# Altium integrated library Linear Technology Power Management PMIC Multifunction.IntLib: 360 symbols (part 26 of 42)
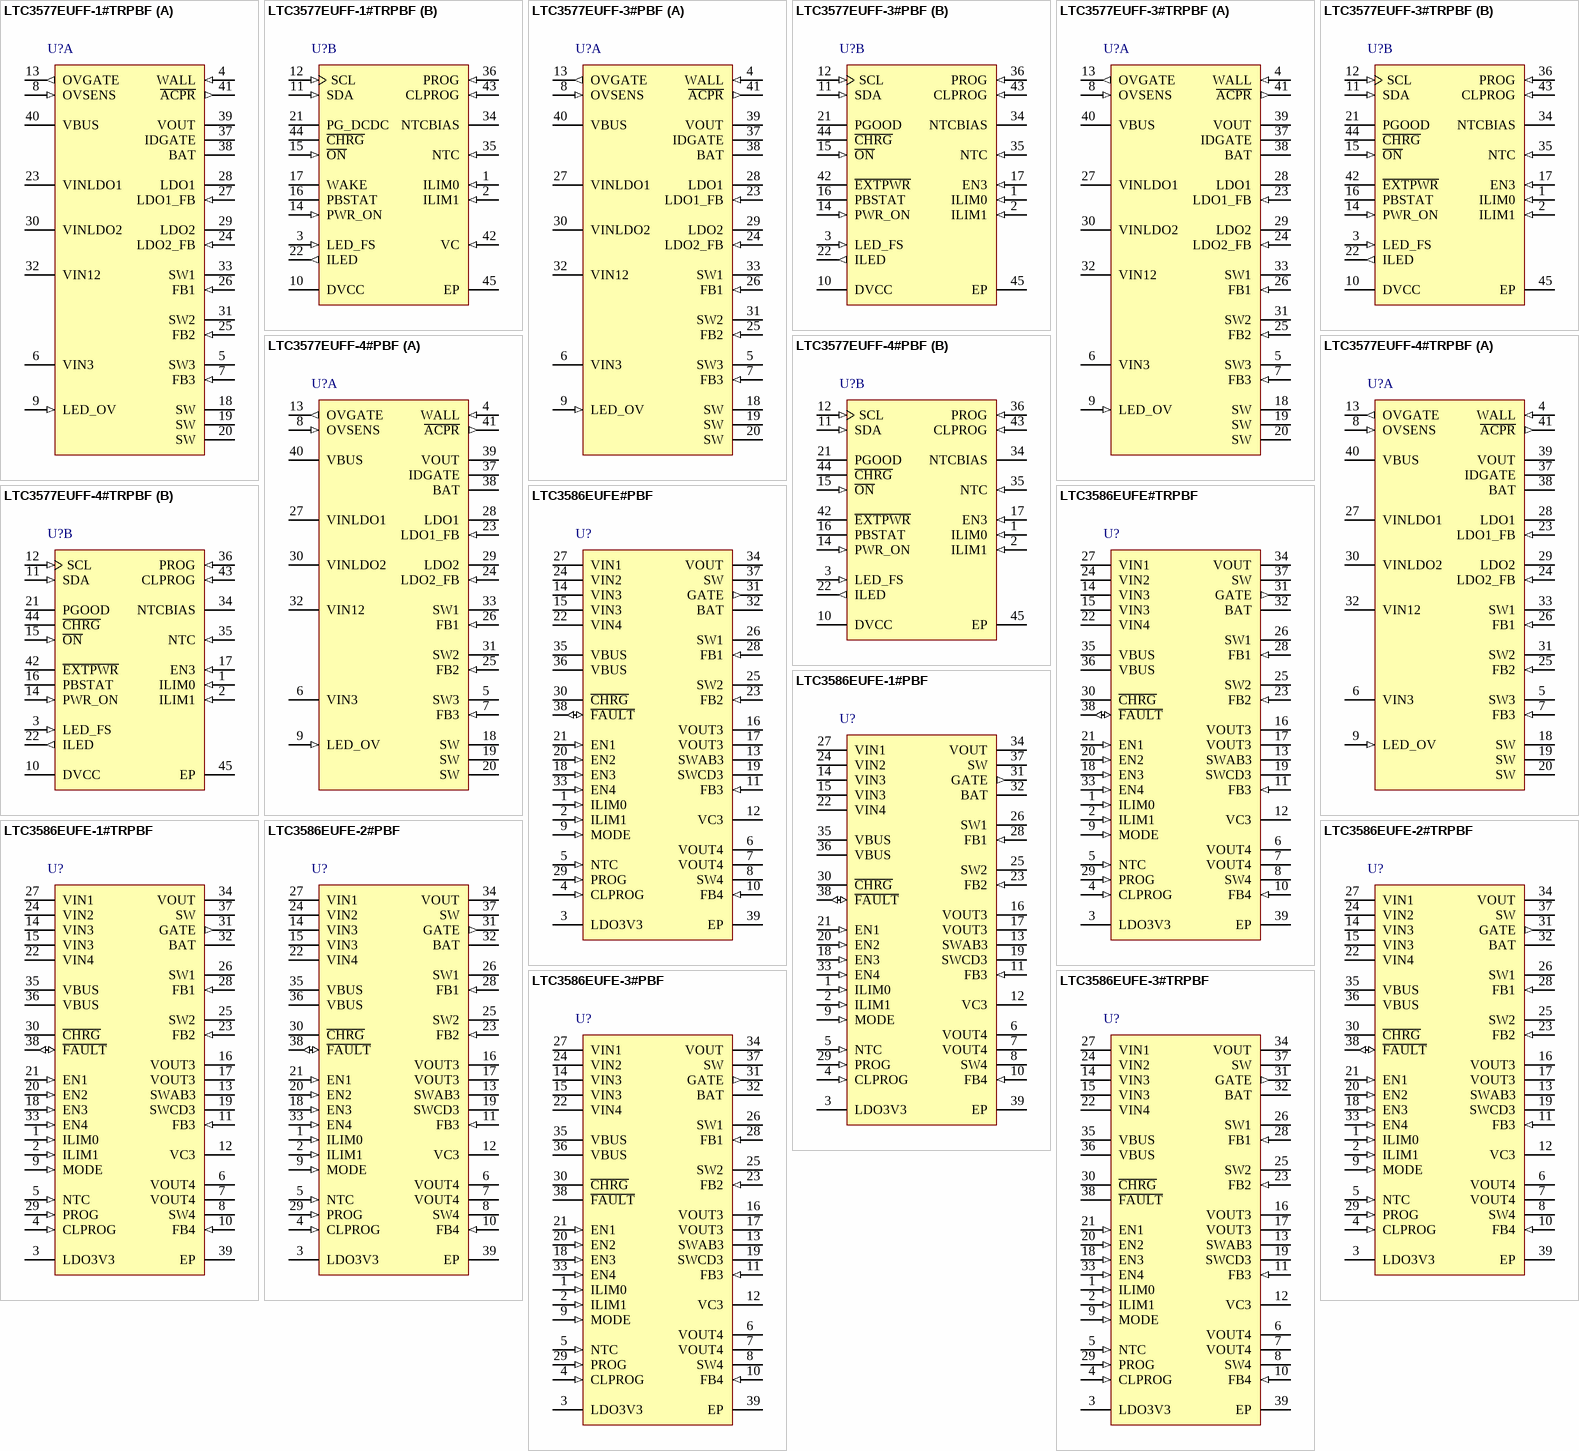
[diagram p43: symbols LTC3577EUFF-1#TRPBF to LTC3586EUFE-3#TRPBF]

## LTC3577EUFF-1#TRPBF
designator U?
Highly Integrated 6-Channel Portable PMIC, 4.35 to 5.5 V Vin, 44-pin QFN (UFF-44-V-UFF44MA), -40 to 85 degC, Pb-Free, Tape and Reel; Manufacturer: Linear Technology; PartNumber: LTC3577EUFF-1#TRPBF; Number of Cells: 1; Number of Outputs: 6; Vin Max(V): 5.5; Vin Min(V): 4.35; DatasheetVersion: Rev. A; PackageVersion: Rev. A, 06/2010; PackageReference: UFF-44; PackageDescription: 44-Pin Plastic QFN, Body 4 x 7 mm, Pitch 0.4 mm; Supplier 1: Digi-Key; Supplier Part Number 1: LTC3577EUFF-1#TRPBF-ND; Packing: Tape and Reel; RoHS: TRUE; Mounting Technology: Surface Mount; ComponentLink1Description: Manufacturer URL; ComponentLink1URL: http://www.linear.com/; ComponentLink2Description: Datasheet; ComponentLink2URL: http://cds.linear.com/docs/en/datasheet/3577fa.pdf; ComponentLink3Description: Package Specification; ComponentLink3URL: http://cds.linear.com/docs/en/packaging/QFN_44_05-08-1762.pdf
footprint LT-UFF-44-V-UFF44MA_V (QFN, 44-Leads, Body 7x4mm, Pitch 0.4mm, Thermal Pad 3.26x2.64mm)
part A pins: 4 WALL (in) "Wall Adapter Present Input. Pulling this pin above 4.3V will disconnect the power path from VBUS to VOUT . The A\C\P\R\ pin will also be pulled low to indicate that a wall adapter has been detected.", 5 SW3 (power) "Power Transmission (Switch) Pin for Step- Down Switching Regulator 3 (buck3).", 6 VIN3 (power) "Power Input for Step-Down Switching Regulator 3. This pin should be connected to VOUT .", 7 FB3 (in) "Feedback Input for Step-Down Switching Regulator 3 (buck3). This pin servos to a fixed voltage of 0.8V when the control loop is complete.", 8 OVSENS (in) "Overvoltage Protection Sense Input. OVSENSE should be connected through a 6.2k resistor to the input power connector and the drain of an external N-channel MOS pass transistor. When the voltage on this pin exceeds a preset (See Datasheet)", 9 LED_OV (in) "A resistor between this pin and the boosted LED backlight voltage sets the overvoltage limit on the boost output. If the boost voltage exceeds the programmed limit the LED boost converter will be disabled.", 13 OVGATE (out) "Overvoltage Protection Gate Output. Connect OVGATE to the gate pin of an external N-channel MOS pass transistor. The source of the transistor should be connected to VBUS and the drain should be connected to the product’(See Datasheet)", 18 SW (power) "Power Transmission (Switch) Pin for LED Boost Converter. See the “LED Backlight/Boost Operation” section for circuit hook-up and component selection. I2C is used to control LED driver enable. I2C default is LED dri(See Datasheet)", 19 SW (power) "Power Transmission (Switch) Pin for LED Boost Converter. See the “LED Backlight/Boost Operation” section for circuit hook-up and component selection. I2C is used to control LED driver enable. I2C default is LED dri(See Datasheet)", 20 SW (power) "Power Transmission (Switch) Pin for LED Boost Converter. See the “LED Backlight/Boost Operation” section for circuit hook-up and component selection. I2C is used to control LED driver enable. I2C default is LED dri(See Datasheet)", 23 VINLDO1 (power) "Input Supply of Low Dropout Linear Regulator 1 (LDO1). This pin should be bypassed to ground with a 1uF or greater ceramic capacitor.", 24 LDO2_FB (in) "Feedback Voltage Input for Low Dropout Linear Regulator 2 (LDO2). LDO2 output voltage is set using an external resistor divider between LDO2 and LDO2_FB.", 25 FB2 (in) "Feedback Input for Step-Down Switching Regulator 2 (buck2). This pin servos to a fixed voltage of 0.8V when the control loop is complete.", 26 FB1 (in) "Feedback Input for Step-Down Switching Regulator 1 (buck1). This pin servos to a fixed voltage of 0.8V when the control loop is complete.", 27 LDO1_FB (in) "Feedback Voltage Input for Low Dropout Linear Regulator 1 (LDO1). LDO1 output voltage is set using an external resistor divider between LDO1 and LDO1_FB.", 28 LDO1 (power) "Output of Low Dropout Linear Regulator 1. This pin must be bypassed to ground with a 1uF or greater ceramic capacitor.", 29 LDO2 (power) "Output of Low Dropout Linear Regulator 2. This pin must be bypassed to ground with a 1uF or greater ceramic capacitor.", 30 VINLDO2 (power) "Input Supply of Low Dropout Linear Regulator 2 (LDO2). This pin should be bypassed to ground with a 1uF or greater ceramic capacitor.", 31 SW2 (power) "Power Transmission (Switch) Pin for Step- Down Switching Regulator 2 (buck2).", 32 VIN12 (power) "Power Input for Step-Down Switching Regulators 1 and 2. This pin will generally be connected to VOUT .", 33 SW1 (power) "Power Transmission (Switch) Pin for Step- Down Switching Regulator 1 (buck1).", 37 IDGATE (hiz) "Ideal Diode Gate Connection. This pin controls the gate of an optional external P-channel MOSFET transistor used to supplement the internal ideal diode. The source of the P-channel MOSFET should be connected to VOUT and the (See Datasheet)", 38 BAT (power) "Single Cell Li-Ion Battery Pin. Depending on available power and load, a Li-Ion battery on BAT will either deliver system power to VOUT through the ideal diode or be charged from the battery charger.", 39 VOUT (power) "Output Voltage of the PowerPath Controller and Input Voltage of the Battery Charger. The majority of the portable product should be powered from VOUT . The LTC3577 will partition the available power between the external load (See Datasheet)", 40 VBUS (power) "USB Input Voltage. VBUS will usually be connected to the USB port of a computer or a DC output wall adapter. VBUS should be bypassed with a low impedance multilayer ceramic capacitor.", 41 ~{ACPR} (out) "Wall Adapter Present Output (Active Low). A low on this pin indicates that the wall adapter input comparator has had its input pulled above its input threshold (typically 4.3V). This pin can be used to drive the gate of an (See Datasheet)"
part B pins: 1 ILIM0 (in) "Input Current Control Pins. ILIM0 and ILIM1 control the input current limit. See Table 1 in the “USB PowerPath Controller” section. Both pins are pulled low by a weak current sink.", 2 ILIM1 (in) "Input Current Control Pins. ILIM0 and ILIM1 control the input current limit. See Table 1 in the “USB PowerPath Controller” section. Both pins are pulled low by a weak current sink.", 3 LED_FS (in) "A resistor between this pin and ground sets the full-scale output current of the ILED pin.", 10 DVCC (power) "Supply Voltage for I2C Lines. This pin sets the logic reference level of the LTC3577. A UVLO circuit on the DVCC pin forces all registers to all 0s whenever DVCC is <1V. Bypass to GND with a 0.1uF capacitor.", 11 SDA (in) "I2C Data Input. Serial data is shifted one bit per clock to control the LTC3577. The logic level for SDA is referenced to DVCC.", 12 SCL (in) "I2C Clock Input. The logic level for SCL is referenced to DVCC.", 14 PWR_ON (in) "Logic Input Used to Keep Buck DC/DCs Enabled After Power-Up. May also be used to enable the buck DC/DCs directly (sequence = buck1 ? buck2 ? buck3). See the “Pushbutton Interface Operation” section for more information.", 15 ~{ON} (in) "Pushbutton Input. A weak internal pull-up forces O\N\ high when left floating. A normally open pushbutton is connected from O\N\ to ground to force a low state on this pin.", 16 PBSTAT (oc) "Open-drain output is a de-bounced and buffered version of O\N\ to be used for processor interrupts.", 17 WAKE (hiz) "Open-Drain Output. The WAKE pin indicates the operating state of the buck DC/DCs. If WAKE is Hi-Z, the buck DC/DCs are enabled and either up or powering up. A low on WAKE indicates that the buck DC/DCs are either powered (See Datasheet)", 21 PG_DCDC (hiz) "Open-Drain Output. PG_DCDC goes high impedance 230ms after all buck DC/DCs are in regulation (within 8% of final value).", 22 ILED (out) "Series LED Backlight Current Sink Output. This pin is connected to the cathode end of the series LED backlight string. The current drawn through the series LEDs can be programmed via a 6-bit 60dB DAC and dimmed via an (See Datasheet)", 34 NTCBIAS (power) "Output Bias Voltage for NTC. A resistor from this pin to the NTC pin will bias the NTC thermistor.", 35 NTC (in) "The NTC pin connects to a battery’s thermistor to determine if the battery is too hot or too cold to charge. If the battery’s temperature is out of range, charging is paused until it drops back into range. A low dr(See Datasheet)", 36 PROG (in) "Charge Current Program and Charge Current Monitor Pin. Connecting a resistor from PROG to ground programs the charge current: ICHG = 1000V/RPROG (A) If sufficient input power is available in constant current mode, this pin (See Datasheet)", 42 VC (in) "High Voltage Buck Regulator Control Pin. This pin can be used to drive the VC pin of an approved external high voltage buck switching regulator. The VC pin is designed to work with the LT(R)3480, LT3653 and LT3505. Consult (See Datasheet)", 43 CLPROG (in) "Input Current Program and Input Current Monitor Pin. A resistor from CLPROG to ground determines the upper limit of the current drawn from the VBUS pin (i.e., the input current limit). A precise fraction of the input (See Datasheet)", 44 ~{CHRG} (hiz) "Open-Drain Charge Status Output. The C\H\R\G\ pin indicates the status of the battery charger. If C\H\R\G\ is high then the charger is near the float voltage (charge current less than 1/10th programmed charge current) or (See Datasheet)", 45 EP (power) "The exposed package pad is ground and must be soldered to PCB ground for electrical contact and rated thermal performance."

## LTC3577EUFF-3#PBF
designator U?
Highly Integrated Portable Product PMIC, 4.35 to 5.5 V Vin, 44-pin QFN (UFF-44-V-UFF44MA), -40 to 85 degC, Pb-Free; Manufacturer: Linear Technology; PartNumber: LTC3577EUFF-3#PBF; Number of Cells: 1; Number of Outputs: 5; Vin Max(V): 5.5; Vin Min(V): 4.35; DatasheetVersion: Rev. B; PackageVersion: Rev. A, 06/2010; PackageReference: UFF-44; PackageDescription: 44-Pin Plastic QFN, Body 4 x 7 mm, Pitch 0.4 mm; Supplier 1: Digi-Key; Supplier Part Number 1: LTC3577EUFF-3#PBF-ND; RoHS: TRUE; Mounting Technology: Surface Mount; ComponentLink1Description: Manufacturer URL; ComponentLink1URL: http://www.linear.com/; ComponentLink2Description: Datasheet; ComponentLink2URL: http://cds.linear.com/docs/en/datasheet/357734fb.pdf; ComponentLink3Description: Package Specification; ComponentLink3URL: http://cds.linear.com/docs/en/packaging/QFN_44_05-08-1762.pdf
footprint LT-UFF-44-V-UFF44MA_V (QFN, 44-Leads, Body 7x4mm, Pitch 0.4mm, Thermal Pad 3.26x2.64mm)
part A pins: 4 WALL (in) "Wall Adapter Present Input. Pulling this pin above 4.3V will disconnect the power path from VBUS to VOUT . The A\C\P\R\ pin will also be pulled low to indicate that a wall adapter has been detected.", 5 SW3 (power) "Power Transmission (Switch) Pin for Step- Down Switching Regulator 3 (buck3).", 6 VIN3 (power) "Power Input for Step-Down Switching Regulator 3. This pin should be connected to VOUT .", 7 FB3 (in) "Feedback Input for Step-Down Switching Regulator 3 (buck3). This pin servos to a fixed voltage of 0.8V when the control loop is complete.", 8 OVSENS (in) "Overvoltage Protection Sense Input. OVSENSE should be connected through a 6.2k resistor to the input power connector and the drain of an external N-channel MOS pass transistor. When the voltage on this pin exceeds a preset (See Datasheet)", 9 LED_OV (in) "A resistor between this pin and the boosted LED backlight voltage sets the overvoltage limit on the boost output. If the boost voltage exceeds the programmed limit the LED boost converter will be disabled.", 13 OVGATE (out) "Overvoltage Protection Gate Output. Connect OVGATE to the gate pin of an external N-channel MOS pass transistor. The source of the transistor should be connected to VBUS and the drain should be connected to the product’(See Datasheet)", 18 SW (power) "Power Transmission (Switch) Pin for LED Boost Converter. See the “LED Backlight/Boost Operation” section for circuit hook-up and component selection. I2C is used to control LED driver enable. I2C default is LED dri(See Datasheet)", 19 SW (power) "Power Transmission (Switch) Pin for LED Boost Converter. See the “LED Backlight/Boost Operation” section for circuit hook-up and component selection. I2C is used to control LED driver enable. I2C default is LED dri(See Datasheet)", 20 SW (power) "Power Transmission (Switch) Pin for LED Boost Converter. See the “LED Backlight/Boost Operation” section for circuit hook-up and component selection. I2C is used to control LED driver enable. I2C default is LED dri(See Datasheet)", 23 LDO1_FB (in) "Feedback Voltage Input for Low Dropout Linear Regulator 1 (LDO1). LDO1 output voltage is set using an external resistor divider between LDO1 and LDO1_FB.", 24 LDO2_FB (in) "Feedback Voltage Input for Low Dropout Linear Regulator 2 (LDO2). LDO2 output voltage is set using an external resistor divider between LDO2 and LDO2_FB.", 25 FB2 (in) "Feedback Input for Step-Down Switching Regulator 2 (buck2). This pin servos to a fixed voltage of 0.8V when the control loop is complete.", 26 FB1 (in) "Feedback Input for Step-Down Switching Regulator 1 (buck1). This pin servos to a fixed voltage of 0.8V when the control loop is complete.", 27 VINLDO1 (power) "Input Supply of Low Dropout Linear Regulator 1 (LDO1). This pin should be bypassed to ground with a 1uF or greater ceramic capacitor.", 28 LDO1 (power) "Output of Low Dropout Linear Regulator 1. LDO1 is an always-on LDO and will be enabled whenever the part is not in VOUT UVLO. This pin must be bypassed to ground with a 1uF or greater ceramic capacitor.", 29 LDO2 (power) "Output of Low Dropout Linear Regulator 2. This pin must be bypassed to ground with a 1uF or greater ceramic capacitor.", 30 VINLDO2 (power) "Input Supply of Low Dropout Linear Regulator 2 (LDO2). This pin should be bypassed to ground with a 1uF or greater ceramic capacitor.", 31 SW2 (power) "Power Transmission (Switch) Pin for Step- Down Switching Regulator 2 (buck2).", 32 VIN12 (power) "Power Input for Step-Down Switching Regulators 1 and 2. This pin will generally be connected to VOUT .", 33 SW1 (power) "Power Transmission (Switch) Pin for Step- Down Switching Regulator 1 (buck1).", 37 IDGATE (hiz) "Ideal Diode Gate Connection. This pin controls the gate of an optional external P-channel MOSFET transistor used to supplement the internal ideal diode. The source of the P-channel MOSFET should be connected to VOUT and the (See Datasheet)", 38 BAT (power) "Single Cell Li-Ion Battery Pin. Depending on available power and load, a Li-Ion battery on BAT will either deliver system power to VOUT through the ideal diode or be charged from the battery charger.", 39 VOUT (power) "Output Voltage of the PowerPath Controller and Input Voltage of the Battery Charger. The majority of the portable product should be powered from VOUT . The LTC3577-3/LTC3577-4 will partition the available power between the (See Datasheet)", 40 VBUS (power) "USB Input Voltage. VBUS will usually be connected to the USB port of a computer or a DC output wall adapter. VBUS should be bypassed with a low impedance multilayer ceramic capacitor.", 41 ~{ACPR} (out) "Wall Adapter Present Output (Active Low). A low on this pin indicates that the wall adapter input comparator has had its input pulled above its input threshold (typically 4.3V). This pin can be used to drive the gate of an (See Datasheet)"
part B pins: 1 ILIM0 (in) "Input Current Control Pins. ILIM0 and ILIM1 control the input current limit. See Table 1 in the “USB PowerPath Controller” section. Both pins are pulled low by a weak current sink.", 2 ILIM1 (in) "Input Current Control Pins. ILIM0 and ILIM1 control the input current limit. See Table 1 in the “USB PowerPath Controller” section. Both pins are pulled low by a weak current sink.", 3 LED_FS (in) "A resistor between this pin and ground sets the full-scale output current of the ILED pin.", 10 DVCC (power) "Supply Voltage for I2C Lines. This pin sets the logic reference level of the LTC3577-3/LTC3577-4. A UVLO circuit on the DVCC pin forces all registers to all 0s whenever DVCC is <1V. Bypass to GND with a 0.1uF capacitor.", 11 SDA (in) "I2C Data Input. Serial data is shifted one bit per clock to control the LTC3577-3/LTC3577-4. The logic level for SDA is referenced to DVCC.", 12 SCL (in) "I2C Clock Input. The logic level for SCL is referenced to DVCC.", 14 PWR_ON (in) "Logic Input Used to Keep Buck DC/DCs Enabled After Power-Up. May also be used to enable the buck DC/DCs directly (sequence = buck1 ? buck2 ? buck3). See the “Pushbutton Interface Operation” section f(See Datasheet)", 15 ~{ON} (in) "Pushbutton Input. A weak internal pull-up forces O\N\ high when left floating. A normally open pushbutton is connected from O\N\ to ground to force a low state on this pin.", 16 PBSTAT (oc) "Open-drain output is a de-bounced and buffered version of O\N\ to be used for processor interrupts.", 17 EN3 (in) "Enable Pin for Step-Down Switching Regulator 3 (Buck3).", 21 PGOOD (hiz) "Open-Drain Output. PGOOD indicates that Buck1, Buck2 and LDO1 are within 8% of final regulation value. There is a 230ms delay from all regulators reaching regulation and PGOOD going high.", 22 ILED (out) "Series LED Backlight Current Sink Output. This pin is connected to the cathode end of the series LED backlight string. The current drawn through the series LEDs can be programmed via a 6-bit 60dB DAC and dimmed via an (See Datasheet)", 34 NTCBIAS (power) "Output Bias Voltage for NTC. A resistor from this pin to the NTC pin will bias the NTC thermistor.", 35 NTC (in) "The NTC pin connects to a battery’s thermistor to determine if the battery is too hot or too cold to charge. If the battery’s temperature is out of range, charging is paused until it drops back into range. A low dr(See Datasheet)", 36 PROG (in) "Charge Current Program and Charge Current Monitor Pin. Connecting a resistor from PROG to ground programs the charge current: ICHG = 1000V/RPROG (A) If sufficient input power is available in constant current mode, this pin (See Datasheet)", 42 ~{EXTPWR} (oc) "External Power Present Output (Active Low, Open-Drain Output). A low on this pin indicates that external power is present at either the VBUS or WALL input. For E\X\T\P\W\R\ to signal VBUS present, VBUS must exceed the VBUS (See Datasheet)", 43 CLPROG (in) "Input Current Program and Input Current Monitor Pin. A resistor from CLPROG to ground determines the upper limit of the current drawn from the VBUS pin (i.e., the input current limit). A precise fraction of the input (See Datasheet)", 44 ~{CHRG} (hiz) "Open-Drain Charge Status Output. The C\H\R\G\ pin indicates the status of the battery charger. If C\H\R\G\ is high then the charger is near the float voltage (charge current less than 1/10th programmed charge current) or (See Datasheet)", 45 EP (power) "The exposed package pad is ground and must be soldered to PCB ground for electrical contact and rated thermal performance."

## LTC3577EUFF-3#TRPBF
designator U?
Highly Integrated Portable Product PMIC, 4.35 to 5.5 V Vin, 44-pin QFN (UFF-44-V-UFF44MA), -40 to 85 degC, Pb-Free, Tape and Reel; Manufacturer: Linear Technology; PartNumber: LTC3577EUFF-3#TRPBF; Number of Cells: 1; Number of Outputs: 5; Vin Max(V): 5.5; Vin Min(V): 4.35; DatasheetVersion: Rev. B; PackageVersion: Rev. A, 06/2010; PackageReference: UFF-44; PackageDescription: 44-Pin Plastic QFN, Body 4 x 7 mm, Pitch 0.4 mm; Supplier 1: Digi-Key; Supplier Part Number 1: LTC3577EUFF-3#TRPBF-ND; Packing: Tape and Reel; RoHS: TRUE; Mounting Technology: Surface Mount; ComponentLink1Description: Manufacturer URL; ComponentLink1URL: http://www.linear.com/; ComponentLink2Description: Datasheet; ComponentLink2URL: http://cds.linear.com/docs/en/datasheet/357734fb.pdf; ComponentLink3Description: Package Specification; ComponentLink3URL: http://cds.linear.com/docs/en/packaging/QFN_44_05-08-1762.pdf
footprint LT-UFF-44-V-UFF44MA_V (QFN, 44-Leads, Body 7x4mm, Pitch 0.4mm, Thermal Pad 3.26x2.64mm)
part A pins: 4 WALL (in) "Wall Adapter Present Input. Pulling this pin above 4.3V will disconnect the power path from VBUS to VOUT . The A\C\P\R\ pin will also be pulled low to indicate that a wall adapter has been detected.", 5 SW3 (power) "Power Transmission (Switch) Pin for Step- Down Switching Regulator 3 (buck3).", 6 VIN3 (power) "Power Input for Step-Down Switching Regulator 3. This pin should be connected to VOUT .", 7 FB3 (in) "Feedback Input for Step-Down Switching Regulator 3 (buck3). This pin servos to a fixed voltage of 0.8V when the control loop is complete.", 8 OVSENS (in) "Overvoltage Protection Sense Input. OVSENSE should be connected through a 6.2k resistor to the input power connector and the drain of an external N-channel MOS pass transistor. When the voltage on this pin exceeds a preset (See Datasheet)", 9 LED_OV (in) "A resistor between this pin and the boosted LED backlight voltage sets the overvoltage limit on the boost output. If the boost voltage exceeds the programmed limit the LED boost converter will be disabled.", 13 OVGATE (out) "Overvoltage Protection Gate Output. Connect OVGATE to the gate pin of an external N-channel MOS pass transistor. The source of the transistor should be connected to VBUS and the drain should be connected to the product’(See Datasheet)", 18 SW (power) "Power Transmission (Switch) Pin for LED Boost Converter. See the “LED Backlight/Boost Operation” section for circuit hook-up and component selection. I2C is used to control LED driver enable. I2C default is LED dri(See Datasheet)", 19 SW (power) "Power Transmission (Switch) Pin for LED Boost Converter. See the “LED Backlight/Boost Operation” section for circuit hook-up and component selection. I2C is used to control LED driver enable. I2C default is LED dri(See Datasheet)", 20 SW (power) "Power Transmission (Switch) Pin for LED Boost Converter. See the “LED Backlight/Boost Operation” section for circuit hook-up and component selection. I2C is used to control LED driver enable. I2C default is LED dri(See Datasheet)", 23 LDO1_FB (in) "Feedback Voltage Input for Low Dropout Linear Regulator 1 (LDO1). LDO1 output voltage is set using an external resistor divider between LDO1 and LDO1_FB.", 24 LDO2_FB (in) "Feedback Voltage Input for Low Dropout Linear Regulator 2 (LDO2). LDO2 output voltage is set using an external resistor divider between LDO2 and LDO2_FB.", 25 FB2 (in) "Feedback Input for Step-Down Switching Regulator 2 (buck2). This pin servos to a fixed voltage of 0.8V when the control loop is complete.", 26 FB1 (in) "Feedback Input for Step-Down Switching Regulator 1 (buck1). This pin servos to a fixed voltage of 0.8V when the control loop is complete.", 27 VINLDO1 (power) "Input Supply of Low Dropout Linear Regulator 1 (LDO1). This pin should be bypassed to ground with a 1uF or greater ceramic capacitor.", 28 LDO1 (power) "Output of Low Dropout Linear Regulator 1. LDO1 is an always-on LDO and will be enabled whenever the part is not in VOUT UVLO. This pin must be bypassed to ground with a 1uF or greater ceramic capacitor.", 29 LDO2 (power) "Output of Low Dropout Linear Regulator 2. This pin must be bypassed to ground with a 1uF or greater ceramic capacitor.", 30 VINLDO2 (power) "Input Supply of Low Dropout Linear Regulator 2 (LDO2). This pin should be bypassed to ground with a 1uF or greater ceramic capacitor.", 31 SW2 (power) "Power Transmission (Switch) Pin for Step- Down Switching Regulator 2 (buck2).", 32 VIN12 (power) "Power Input for Step-Down Switching Regulators 1 and 2. This pin will generally be connected to VOUT .", 33 SW1 (power) "Power Transmission (Switch) Pin for Step- Down Switching Regulator 1 (buck1).", 37 IDGATE (hiz) "Ideal Diode Gate Connection. This pin controls the gate of an optional external P-channel MOSFET transistor used to supplement the internal ideal diode. The source of the P-channel MOSFET should be connected to VOUT and the (See Datasheet)", 38 BAT (power) "Single Cell Li-Ion Battery Pin. Depending on available power and load, a Li-Ion battery on BAT will either deliver system power to VOUT through the ideal diode or be charged from the battery charger.", 39 VOUT (power) "Output Voltage of the PowerPath Controller and Input Voltage of the Battery Charger. The majority of the portable product should be powered from VOUT . The LTC3577-3/LTC3577-4 will partition the available power between the (See Datasheet)", 40 VBUS (power) "USB Input Voltage. VBUS will usually be connected to the USB port of a computer or a DC output wall adapter. VBUS should be bypassed with a low impedance multilayer ceramic capacitor.", 41 ~{ACPR} (out) "Wall Adapter Present Output (Active Low). A low on this pin indicates that the wall adapter input comparator has had its input pulled above its input threshold (typically 4.3V). This pin can be used to drive the gate of an (See Datasheet)"
part B pins: 1 ILIM0 (in) "Input Current Control Pins. ILIM0 and ILIM1 control the input current limit. See Table 1 in the “USB PowerPath Controller” section. Both pins are pulled low by a weak current sink.", 2 ILIM1 (in) "Input Current Control Pins. ILIM0 and ILIM1 control the input current limit. See Table 1 in the “USB PowerPath Controller” section. Both pins are pulled low by a weak current sink.", 3 LED_FS (in) "A resistor between this pin and ground sets the full-scale output current of the ILED pin.", 10 DVCC (power) "Supply Voltage for I2C Lines. This pin sets the logic reference level of the LTC3577-3/LTC3577-4. A UVLO circuit on the DVCC pin forces all registers to all 0s whenever DVCC is <1V. Bypass to GND with a 0.1uF capacitor.", 11 SDA (in) "I2C Data Input. Serial data is shifted one bit per clock to control the LTC3577-3/LTC3577-4. The logic level for SDA is referenced to DVCC.", 12 SCL (in) "I2C Clock Input. The logic level for SCL is referenced to DVCC.", 14 PWR_ON (in) "Logic Input Used to Keep Buck DC/DCs Enabled After Power-Up. May also be used to enable the buck DC/DCs directly (sequence = buck1 ? buck2 ? buck3). See the “Pushbutton Interface Operation” section f(See Datasheet)", 15 ~{ON} (in) "Pushbutton Input. A weak internal pull-up forces O\N\ high when left floating. A normally open pushbutton is connected from O\N\ to ground to force a low state on this pin.", 16 PBSTAT (oc) "Open-drain output is a de-bounced and buffered version of O\N\ to be used for processor interrupts.", 17 EN3 (in) "Enable Pin for Step-Down Switching Regulator 3 (Buck3).", 21 PGOOD (hiz) "Open-Drain Output. PGOOD indicates that Buck1, Buck2 and LDO1 are within 8% of final regulation value. There is a 230ms delay from all regulators reaching regulation and PGOOD going high.", 22 ILED (out) "Series LED Backlight Current Sink Output. This pin is connected to the cathode end of the series LED backlight string. The current drawn through the series LEDs can be programmed via a 6-bit 60dB DAC and dimmed via an (See Datasheet)", 34 NTCBIAS (power) "Output Bias Voltage for NTC. A resistor from this pin to the NTC pin will bias the NTC thermistor.", 35 NTC (in) "The NTC pin connects to a battery’s thermistor to determine if the battery is too hot or too cold to charge. If the battery’s temperature is out of range, charging is paused until it drops back into range. A low dr(See Datasheet)", 36 PROG (in) "Charge Current Program and Charge Current Monitor Pin. Connecting a resistor from PROG to ground programs the charge current: ICHG = 1000V/RPROG (A) If sufficient input power is available in constant current mode, this pin (See Datasheet)", 42 ~{EXTPWR} (oc) "External Power Present Output (Active Low, Open-Drain Output). A low on this pin indicates that external power is present at either the VBUS or WALL input. For E\X\T\P\W\R\ to signal VBUS present, VBUS must exceed the VBUS (See Datasheet)", 43 CLPROG (in) "Input Current Program and Input Current Monitor Pin. A resistor from CLPROG to ground determines the upper limit of the current drawn from the VBUS pin (i.e., the input current limit). A precise fraction of the input (See Datasheet)", 44 ~{CHRG} (hiz) "Open-Drain Charge Status Output. The C\H\R\G\ pin indicates the status of the battery charger. If C\H\R\G\ is high then the charger is near the float voltage (charge current less than 1/10th programmed charge current) or (See Datasheet)", 45 EP (power) "The exposed package pad is ground and must be soldered to PCB ground for electrical contact and rated thermal performance."

## LTC3577EUFF-4#PBF
designator U?
Highly Integrated Portable Product PMIC, 4.35 to 5.5 V Vin, 44-pin QFN (UFF-44-V-UFF44MA), -40 to 85 degC, Pb-Free; Manufacturer: Linear Technology; PartNumber: LTC3577EUFF-4#PBF; Number of Cells: 1; Number of Outputs: 5; Vin Max(V): 5.5; Vin Min(V): 4.35; DatasheetVersion: Rev. B; PackageVersion: Rev. A, 06/2010; PackageReference: UFF-44; PackageDescription: 44-Pin Plastic QFN, Body 4 x 7 mm, Pitch 0.4 mm; Supplier 1: Digi-Key; Supplier Part Number 1: LTC3577EUFF-4#PBF-ND; RoHS: TRUE; Mounting Technology: Surface Mount; ComponentLink1Description: Manufacturer URL; ComponentLink1URL: http://www.linear.com/; ComponentLink2Description: Datasheet; ComponentLink2URL: http://cds.linear.com/docs/en/datasheet/357734fb.pdf; ComponentLink3Description: Package Specification; ComponentLink3URL: http://cds.linear.com/docs/en/packaging/QFN_44_05-08-1762.pdf
footprint LT-UFF-44-V-UFF44MA_V (QFN, 44-Leads, Body 7x4mm, Pitch 0.4mm, Thermal Pad 3.26x2.64mm)
part A pins: 4 WALL (in) "Wall Adapter Present Input. Pulling this pin above 4.3V will disconnect the power path from VBUS to VOUT . The A\C\P\R\ pin will also be pulled low to indicate that a wall adapter has been detected.", 5 SW3 (power) "Power Transmission (Switch) Pin for Step- Down Switching Regulator 3 (buck3).", 6 VIN3 (power) "Power Input for Step-Down Switching Regulator 3. This pin should be connected to VOUT .", 7 FB3 (in) "Feedback Input for Step-Down Switching Regulator 3 (buck3). This pin servos to a fixed voltage of 0.8V when the control loop is complete.", 8 OVSENS (in) "Overvoltage Protection Sense Input. OVSENSE should be connected through a 6.2k resistor to the input power connector and the drain of an external N-channel MOS pass transistor. When the voltage on this pin exceeds a preset (See Datasheet)", 9 LED_OV (in) "A resistor between this pin and the boosted LED backlight voltage sets the overvoltage limit on the boost output. If the boost voltage exceeds the programmed limit the LED boost converter will be disabled.", 13 OVGATE (out) "Overvoltage Protection Gate Output. Connect OVGATE to the gate pin of an external N-channel MOS pass transistor. The source of the transistor should be connected to VBUS and the drain should be connected to the product’(See Datasheet)", 18 SW (power) "Power Transmission (Switch) Pin for LED Boost Converter. See the “LED Backlight/Boost Operation” section for circuit hook-up and component selection. I2C is used to control LED driver enable. I2C default is LED dri(See Datasheet)", 19 SW (power) "Power Transmission (Switch) Pin for LED Boost Converter. See the “LED Backlight/Boost Operation” section for circuit hook-up and component selection. I2C is used to control LED driver enable. I2C default is LED dri(See Datasheet)", 20 SW (power) "Power Transmission (Switch) Pin for LED Boost Converter. See the “LED Backlight/Boost Operation” section for circuit hook-up and component selection. I2C is used to control LED driver enable. I2C default is LED dri(See Datasheet)", 23 LDO1_FB (in) "Feedback Voltage Input for Low Dropout Linear Regulator 1 (LDO1). LDO1 output voltage is set using an external resistor divider between LDO1 and LDO1_FB.", 24 LDO2_FB (in) "Feedback Voltage Input for Low Dropout Linear Regulator 2 (LDO2). LDO2 output voltage is set using an external resistor divider between LDO2 and LDO2_FB.", 25 FB2 (in) "Feedback Input for Step-Down Switching Regulator 2 (buck2). This pin servos to a fixed voltage of 0.8V when the control loop is complete.", 26 FB1 (in) "Feedback Input for Step-Down Switching Regulator 1 (buck1). This pin servos to a fixed voltage of 0.8V when the control loop is complete.", 27 VINLDO1 (power) "Input Supply of Low Dropout Linear Regulator 1 (LDO1). This pin should be bypassed to ground with a 1uF or greater ceramic capacitor.", 28 LDO1 (power) "Output of Low Dropout Linear Regulator 1. LDO1 is an always-on LDO and will be enabled whenever the part is not in VOUT UVLO. This pin must be bypassed to ground with a 1uF or greater ceramic capacitor.", 29 LDO2 (power) "Output of Low Dropout Linear Regulator 2. This pin must be bypassed to ground with a 1uF or greater ceramic capacitor.", 30 VINLDO2 (power) "Input Supply of Low Dropout Linear Regulator 2 (LDO2). This pin should be bypassed to ground with a 1uF or greater ceramic capacitor.", 31 SW2 (power) "Power Transmission (Switch) Pin for Step- Down Switching Regulator 2 (buck2).", 32 VIN12 (power) "Power Input for Step-Down Switching Regulators 1 and 2. This pin will generally be connected to VOUT .", 33 SW1 (power) "Power Transmission (Switch) Pin for Step- Down Switching Regulator 1 (buck1).", 37 IDGATE (hiz) "Ideal Diode Gate Connection. This pin controls the gate of an optional external P-channel MOSFET transistor used to supplement the internal ideal diode. The source of the P-channel MOSFET should be connected to VOUT and the (See Datasheet)", 38 BAT (power) "Single Cell Li-Ion Battery Pin. Depending on available power and load, a Li-Ion battery on BAT will either deliver system power to VOUT through the ideal diode or be charged from the battery charger.", 39 VOUT (power) "Output Voltage of the PowerPath Controller and Input Voltage of the Battery Charger. The majority of the portable product should be powered from VOUT . The LTC3577-3/LTC3577-4 will partition the available power between the (See Datasheet)", 40 VBUS (power) "USB Input Voltage. VBUS will usually be connected to the USB port of a computer or a DC output wall adapter. VBUS should be bypassed with a low impedance multilayer ceramic capacitor.", 41 ~{ACPR} (out) "Wall Adapter Present Output (Active Low). A low on this pin indicates that the wall adapter input comparator has had its input pulled above its input threshold (typically 4.3V). This pin can be used to drive the gate of an (See Datasheet)"
part B pins: 1 ILIM0 (in) "Input Current Control Pins. ILIM0 and ILIM1 control the input current limit. See Table 1 in the “USB PowerPath Controller” section. Both pins are pulled low by a weak current sink.", 2 ILIM1 (in) "Input Current Control Pins. ILIM0 and ILIM1 control the input current limit. See Table 1 in the “USB PowerPath Controller” section. Both pins are pulled low by a weak current sink.", 3 LED_FS (in) "A resistor between this pin and ground sets the full-scale output current of the ILED pin.", 10 DVCC (power) "Supply Voltage for I2C Lines. This pin sets the logic reference level of the LTC3577-3/LTC3577-4. A UVLO circuit on the DVCC pin forces all registers to all 0s whenever DVCC is <1V. Bypass to GND with a 0.1uF capacitor.", 11 SDA (in) "I2C Data Input. Serial data is shifted one bit per clock to control the LTC3577-3/LTC3577-4. The logic level for SDA is referenced to DVCC.", 12 SCL (in) "I2C Clock Input. The logic level for SCL is referenced to DVCC.", 14 PWR_ON (in) "Logic Input Used to Keep Buck DC/DCs Enabled After Power-Up. May also be used to enable the buck DC/DCs directly (sequence = buck1 ? buck2 ? buck3). See the “Pushbutton Interface Operation” section f(See Datasheet)", 15 ~{ON} (in) "Pushbutton Input. A weak internal pull-up forces O\N\ high when left floating. A normally open pushbutton is connected from O\N\ to ground to force a low state on this pin.", 16 PBSTAT (oc) "Open-drain output is a de-bounced and buffered version of O\N\ to be used for processor interrupts.", 17 EN3 (in) "Enable Pin for Step-Down Switching Regulator 3 (Buck3).", 21 PGOOD (hiz) "Open-Drain Output. PGOOD indicates that Buck1, Buck2 and LDO1 are within 8% of final regulation value. There is a 230ms delay from all regulators reaching regulation and PGOOD going high.", 22 ILED (out) "Series LED Backlight Current Sink Output. This pin is connected to the cathode end of the series LED backlight string. The current drawn through the series LEDs can be programmed via a 6-bit 60dB DAC and dimmed via an (See Datasheet)", 34 NTCBIAS (power) "Output Bias Voltage for NTC. A resistor from this pin to the NTC pin will bias the NTC thermistor.", 35 NTC (in) "The NTC pin connects to a battery’s thermistor to determine if the battery is too hot or too cold to charge. If the battery’s temperature is out of range, charging is paused until it drops back into range. A low dr(See Datasheet)", 36 PROG (in) "Charge Current Program and Charge Current Monitor Pin. Connecting a resistor from PROG to ground programs the charge current: ICHG = 1000V/RPROG (A) If sufficient input power is available in constant current mode, this pin (See Datasheet)", 42 ~{EXTPWR} (oc) "External Power Present Output (Active Low, Open-Drain Output). A low on this pin indicates that external power is present at either the VBUS or WALL input. For E\X\T\P\W\R\ to signal VBUS present, VBUS must exceed the VBUS (See Datasheet)", 43 CLPROG (in) "Input Current Program and Input Current Monitor Pin. A resistor from CLPROG to ground determines the upper limit of the current drawn from the VBUS pin (i.e., the input current limit). A precise fraction of the input (See Datasheet)", 44 ~{CHRG} (hiz) "Open-Drain Charge Status Output. The C\H\R\G\ pin indicates the status of the battery charger. If C\H\R\G\ is high then the charger is near the float voltage (charge current less than 1/10th programmed charge current) or (See Datasheet)", 45 EP (power) "The exposed package pad is ground and must be soldered to PCB ground for electrical contact and rated thermal performance."

## LTC3577EUFF-4#TRPBF
designator U?
Highly Integrated Portable Product PMIC, 4.35 to 5.5 V Vin, 44-pin QFN (UFF-44-V-UFF44MA), -40 to 85 degC, Pb-Free, Tape and Reel; Manufacturer: Linear Technology; PartNumber: LTC3577EUFF-4#TRPBF; Number of Cells: 1; Number of Outputs: 5; Vin Max(V): 5.5; Vin Min(V): 4.35; DatasheetVersion: Rev. B; PackageVersion: Rev. A, 06/2010; PackageReference: UFF-44; PackageDescription: 44-Pin Plastic QFN, Body 4 x 7 mm, Pitch 0.4 mm; Supplier 1: Digi-Key; Supplier Part Number 1: LTC3577EUFF-4#TRPBF-ND; Packing: Tape and Reel; RoHS: TRUE; Mounting Technology: Surface Mount; ComponentLink1Description: Manufacturer URL; ComponentLink1URL: http://www.linear.com/; ComponentLink2Description: Datasheet; ComponentLink2URL: http://cds.linear.com/docs/en/datasheet/357734fb.pdf; ComponentLink3Description: Package Specification; ComponentLink3URL: http://cds.linear.com/docs/en/packaging/QFN_44_05-08-1762.pdf
footprint LT-UFF-44-V-UFF44MA_V (QFN, 44-Leads, Body 7x4mm, Pitch 0.4mm, Thermal Pad 3.26x2.64mm)
part A pins: 4 WALL (in) "Wall Adapter Present Input. Pulling this pin above 4.3V will disconnect the power path from VBUS to VOUT . The A\C\P\R\ pin will also be pulled low to indicate that a wall adapter has been detected.", 5 SW3 (power) "Power Transmission (Switch) Pin for Step- Down Switching Regulator 3 (buck3).", 6 VIN3 (power) "Power Input for Step-Down Switching Regulator 3. This pin should be connected to VOUT .", 7 FB3 (in) "Feedback Input for Step-Down Switching Regulator 3 (buck3). This pin servos to a fixed voltage of 0.8V when the control loop is complete.", 8 OVSENS (in) "Overvoltage Protection Sense Input. OVSENSE should be connected through a 6.2k resistor to the input power connector and the drain of an external N-channel MOS pass transistor. When the voltage on this pin exceeds a preset (See Datasheet)", 9 LED_OV (in) "A resistor between this pin and the boosted LED backlight voltage sets the overvoltage limit on the boost output. If the boost voltage exceeds the programmed limit the LED boost converter will be disabled.", 13 OVGATE (out) "Overvoltage Protection Gate Output. Connect OVGATE to the gate pin of an external N-channel MOS pass transistor. The source of the transistor should be connected to VBUS and the drain should be connected to the product’(See Datasheet)", 18 SW (power) "Power Transmission (Switch) Pin for LED Boost Converter. See the “LED Backlight/Boost Operation” section for circuit hook-up and component selection. I2C is used to control LED driver enable. I2C default is LED dri(See Datasheet)", 19 SW (power) "Power Transmission (Switch) Pin for LED Boost Converter. See the “LED Backlight/Boost Operation” section for circuit hook-up and component selection. I2C is used to control LED driver enable. I2C default is LED dri(See Datasheet)", 20 SW (power) "Power Transmission (Switch) Pin for LED Boost Converter. See the “LED Backlight/Boost Operation” section for circuit hook-up and component selection. I2C is used to control LED driver enable. I2C default is LED dri(See Datasheet)", 23 LDO1_FB (in) "Feedback Voltage Input for Low Dropout Linear Regulator 1 (LDO1). LDO1 output voltage is set using an external resistor divider between LDO1 and LDO1_FB.", 24 LDO2_FB (in) "Feedback Voltage Input for Low Dropout Linear Regulator 2 (LDO2). LDO2 output voltage is set using an external resistor divider between LDO2 and LDO2_FB.", 25 FB2 (in) "Feedback Input for Step-Down Switching Regulator 2 (buck2). This pin servos to a fixed voltage of 0.8V when the control loop is complete.", 26 FB1 (in) "Feedback Input for Step-Down Switching Regulator 1 (buck1). This pin servos to a fixed voltage of 0.8V when the control loop is complete.", 27 VINLDO1 (power) "Input Supply of Low Dropout Linear Regulator 1 (LDO1). This pin should be bypassed to ground with a 1uF or greater ceramic capacitor.", 28 LDO1 (power) "Output of Low Dropout Linear Regulator 1. LDO1 is an always-on LDO and will be enabled whenever the part is not in VOUT UVLO. This pin must be bypassed to ground with a 1uF or greater ceramic capacitor.", 29 LDO2 (power) "Output of Low Dropout Linear Regulator 2. This pin must be bypassed to ground with a 1uF or greater ceramic capacitor.", 30 VINLDO2 (power) "Input Supply of Low Dropout Linear Regulator 2 (LDO2). This pin should be bypassed to ground with a 1uF or greater ceramic capacitor.", 31 SW2 (power) "Power Transmission (Switch) Pin for Step- Down Switching Regulator 2 (buck2).", 32 VIN12 (power) "Power Input for Step-Down Switching Regulators 1 and 2. This pin will generally be connected to VOUT .", 33 SW1 (power) "Power Transmission (Switch) Pin for Step- Down Switching Regulator 1 (buck1).", 37 IDGATE (hiz) "Ideal Diode Gate Connection. This pin controls the gate of an optional external P-channel MOSFET transistor used to supplement the internal ideal diode. The source of the P-channel MOSFET should be connected to VOUT and the (See Datasheet)", 38 BAT (power) "Single Cell Li-Ion Battery Pin. Depending on available power and load, a Li-Ion battery on BAT will either deliver system power to VOUT through the ideal diode or be charged from the battery charger.", 39 VOUT (power) "Output Voltage of the PowerPath Controller and Input Voltage of the Battery Charger. The majority of the portable product should be powered from VOUT . The LTC3577-3/LTC3577-4 will partition the available power between the (See Datasheet)", 40 VBUS (power) "USB Input Voltage. VBUS will usually be connected to the USB port of a computer or a DC output wall adapter. VBUS should be bypassed with a low impedance multilayer ceramic capacitor.", 41 ~{ACPR} (out) "Wall Adapter Present Output (Active Low). A low on this pin indicates that the wall adapter input comparator has had its input pulled above its input threshold (typically 4.3V). This pin can be used to drive the gate of an (See Datasheet)"
part B pins: 1 ILIM0 (in) "Input Current Control Pins. ILIM0 and ILIM1 control the input current limit. See Table 1 in the “USB PowerPath Controller” section. Both pins are pulled low by a weak current sink.", 2 ILIM1 (in) "Input Current Control Pins. ILIM0 and ILIM1 control the input current limit. See Table 1 in the “USB PowerPath Controller” section. Both pins are pulled low by a weak current sink.", 3 LED_FS (in) "A resistor between this pin and ground sets the full-scale output current of the ILED pin.", 10 DVCC (power) "Supply Voltage for I2C Lines. This pin sets the logic reference level of the LTC3577-3/LTC3577-4. A UVLO circuit on the DVCC pin forces all registers to all 0s whenever DVCC is <1V. Bypass to GND with a 0.1uF capacitor.", 11 SDA (in) "I2C Data Input. Serial data is shifted one bit per clock to control the LTC3577-3/LTC3577-4. The logic level for SDA is referenced to DVCC.", 12 SCL (in) "I2C Clock Input. The logic level for SCL is referenced to DVCC.", 14 PWR_ON (in) "Logic Input Used to Keep Buck DC/DCs Enabled After Power-Up. May also be used to enable the buck DC/DCs directly (sequence = buck1 ? buck2 ? buck3). See the “Pushbutton Interface Operation” section f(See Datasheet)", 15 ~{ON} (in) "Pushbutton Input. A weak internal pull-up forces O\N\ high when left floating. A normally open pushbutton is connected from O\N\ to ground to force a low state on this pin.", 16 PBSTAT (oc) "Open-drain output is a de-bounced and buffered version of O\N\ to be used for processor interrupts.", 17 EN3 (in) "Enable Pin for Step-Down Switching Regulator 3 (Buck3).", 21 PGOOD (hiz) "Open-Drain Output. PGOOD indicates that Buck1, Buck2 and LDO1 are within 8% of final regulation value. There is a 230ms delay from all regulators reaching regulation and PGOOD going high.", 22 ILED (out) "Series LED Backlight Current Sink Output. This pin is connected to the cathode end of the series LED backlight string. The current drawn through the series LEDs can be programmed via a 6-bit 60dB DAC and dimmed via an (See Datasheet)", 34 NTCBIAS (power) "Output Bias Voltage for NTC. A resistor from this pin to the NTC pin will bias the NTC thermistor.", 35 NTC (in) "The NTC pin connects to a battery’s thermistor to determine if the battery is too hot or too cold to charge. If the battery’s temperature is out of range, charging is paused until it drops back into range. A low dr(See Datasheet)", 36 PROG (in) "Charge Current Program and Charge Current Monitor Pin. Connecting a resistor from PROG to ground programs the charge current: ICHG = 1000V/RPROG (A) If sufficient input power is available in constant current mode, this pin (See Datasheet)", 42 ~{EXTPWR} (oc) "External Power Present Output (Active Low, Open-Drain Output). A low on this pin indicates that external power is present at either the VBUS or WALL input. For E\X\T\P\W\R\ to signal VBUS present, VBUS must exceed the VBUS (See Datasheet)", 43 CLPROG (in) "Input Current Program and Input Current Monitor Pin. A resistor from CLPROG to ground determines the upper limit of the current drawn from the VBUS pin (i.e., the input current limit). A precise fraction of the input (See Datasheet)", 44 ~{CHRG} (hiz) "Open-Drain Charge Status Output. The C\H\R\G\ pin indicates the status of the battery charger. If C\H\R\G\ is high then the charger is near the float voltage (charge current less than 1/10th programmed charge current) or (See Datasheet)", 45 EP (power) "The exposed package pad is ground and must be soldered to PCB ground for electrical contact and rated thermal performance."